# EAGLE library part ESP01 (library esp8266modules)
ESP8266 Wifi module 01
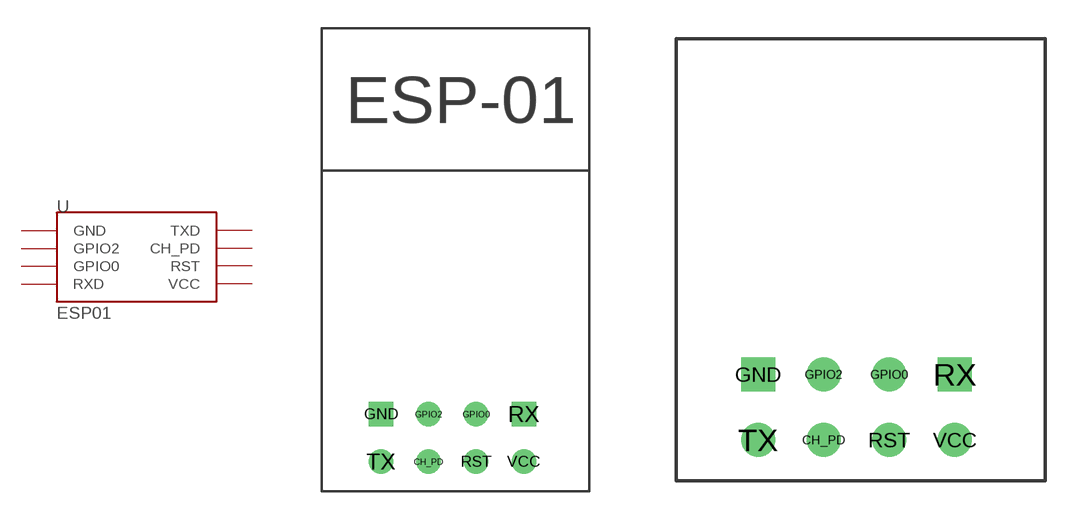
[diagram p0: symbol with the pads of ESP01; footprints ESP01, ESP01A]

Designator prefix -

## ESP01ESP01-FULL  [ESP01]
CH_PD  CH_PD
GND  GND
GPIO0  GPIO0
GPIO2  GPIO2
RST  RST
RX  RXD
TX  TXD
VCC  VCC

## ESP01  [ESP01A]
Pads as for ESP01

## Footprint ESP01 (pad centres in mm)
ESP8266 Module 01
drill 0.8: CH_PD -1.285,-8.178; GPIO0 1.255,-5.638; GPIO2 -1.285,-5.638; RST 1.255,-8.178; TX -3.825,-8.178; VCC 3.795,-8.178
drill 0.8 square: GND -3.825,-5.638; RX 3.795,-5.638

## Footprint ESP01A (pad centres in mm)
drill 0.8: CH_PD -1.285,-6.907; GPIO0 1.255,-4.367; GPIO2 -1.285,-4.367; RST 1.255,-6.907; TX -3.825,-6.907; VCC 3.795,-6.907
drill 0.8 square: GND -3.825,-4.367; RX 3.795,-4.367